# Altium schematic symbol library TPD4E05U06DQA.Schlib: 1 symbol
Pins are listed as number, name and electrical type; pins without a type are passive.

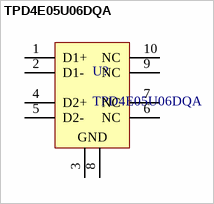
[diagram p0: symbol TPD4E05U06DQA]

## TPD4E05U06DQA
designator U?
TVS DIODE 5.5V 14V 10SON
pins: 1 D1+, 2 D1-, 3 GND, 4 D2+, 5 D2-, 6 NC, 7 NC, 8 GND, 9 NC, 10 NC